# EAGLE library part DRV8841 (library myFab)
DUAL-BRIDGE MOTOR CONTROLLER IC
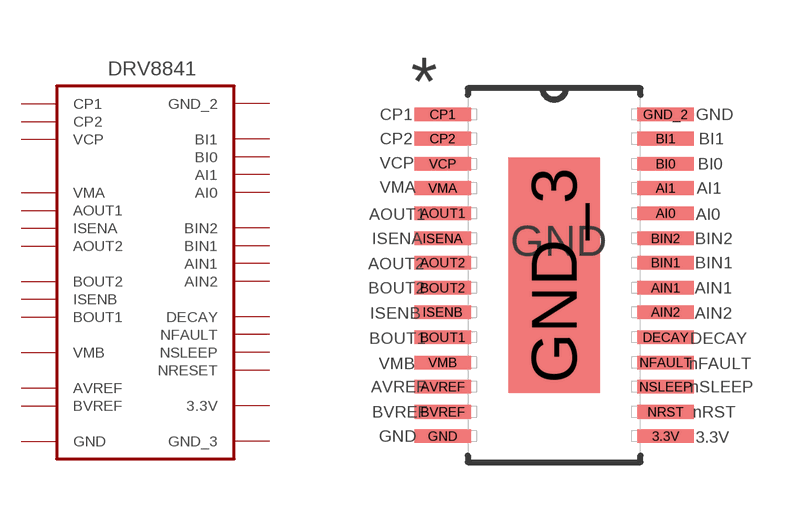
[diagram p12: symbol with the pads of DRV8841; footprint DRV8841]

Designator prefix U

## DRV8841 (MPN: DRV8812PWP; OC_FARNELL: -; OC_NEWARK: 79R7957; PACKAGE: TSSOP-28; SUPPLIER: Texas Instruments)  [DRV8841]
3.3V  3.3V  out
AI0  AI0  in
AI1  AI1  in
AIN1  AIN1  in
AIN2  AIN2  in
AOUT1  AOUT1  pwr
AOUT2  AOUT2  out
AVREF  AVREF  in
BI0  BI0  in
BI1  BI1  in
BIN1  BIN1  in
BIN2  BIN2  in
BOUT1  BOUT1  out
BOUT2  BOUT2  out
BVREF  BVREF  in
CP1  CP1
CP2  CP2
DECAY  DECAY  in
GND  GND  pas
GND_2  GND_2  pas
GND_3  GND_3  pas
ISENA  ISENA
ISENB  ISENB
NFAULT  NFAULT  in
NRST  NRESET  in
NSLEEP  NSLEEP  in
VCP  VCP
VMA  VMA  pwr
VMB  VMB  pwr

## Footprint DRV8841 (pad centres in mm)
smd 1.473 x 0.356: 3.3V 2.921,-4.216; AI0 2.921,1.626; AI1 2.921,2.286; AIN1 2.921,-0.33; AIN2 2.921,-0.965; AOUT1 -2.921,1.626; AOUT2 -2.921,0.33; AVREF -2.921,-2.921; BI0 2.921,2.921; BI1 2.921,3.581; BIN1 2.921,0.33; BIN2 2.921,0.965; BOUT1 -2.921,-1.626; BOUT2 -2.921,-0.33; BVREF -2.921,-3.581; CP1 -2.921,4.216; CP2 -2.921,3.581; DECAY 2.921,-1.626; GND -2.921,-4.216; GND_2 2.921,4.216; ISENA -2.921,0.965; ISENB -2.921,-0.965; NFAULT 2.921,-2.286; NRST 2.921,-3.581; NSLEEP 2.921,-2.921; VCP -2.921,2.921; VMA -2.921,2.286; VMB -2.921,-2.286
smd 2.388 x 6.172: GND_3 0,0